# Altium footprint library Transistor.PcbLib: 227 footprints (part 5 of 15)
Each footprint in its own frame and in the unit in brackets; x right, y up, seen from the top. Pads: shape width x height; smd on the part's side, far side on the other; paste and mask are expansions set on the pad; w line width, h text height; cw(c..) or ccw(c..) is an arc to the next point about the centre after c.
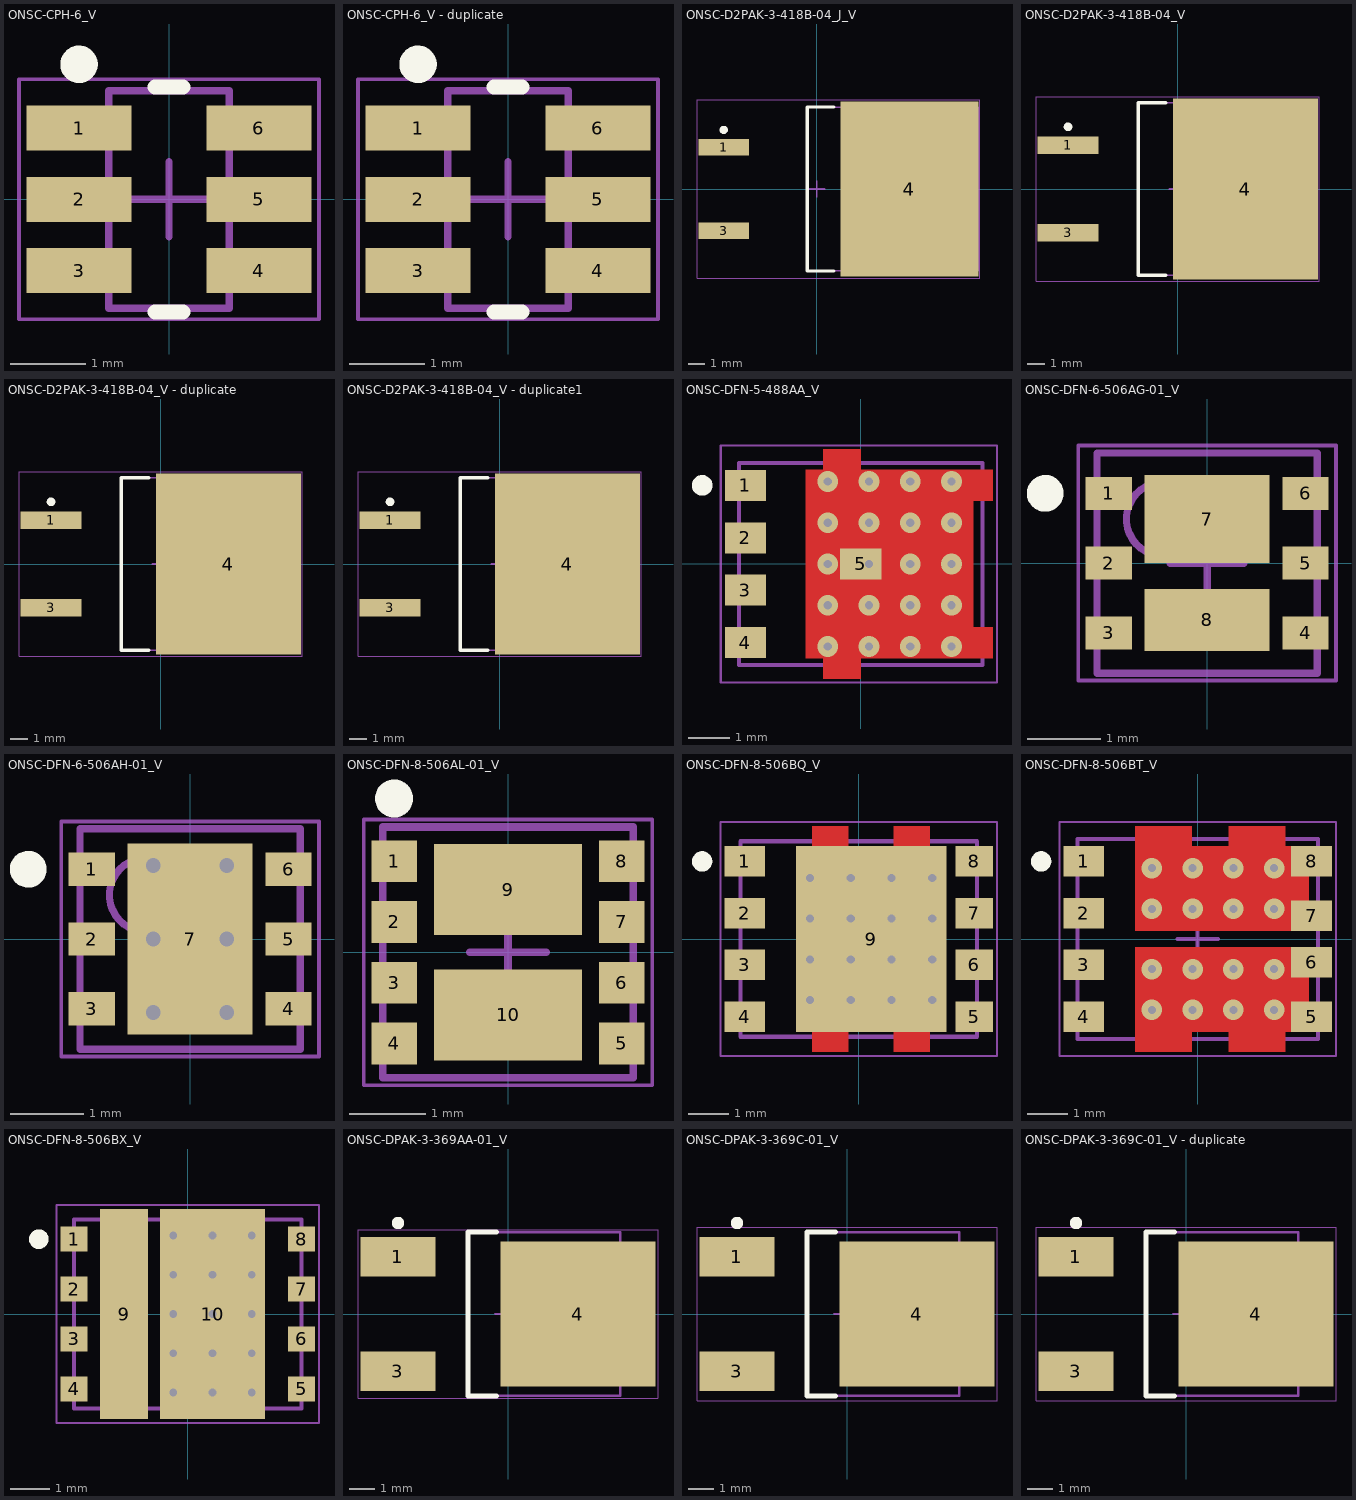
[diagram p4: the footprints below, top view; thin cyan lines are the x and y axes]

## ONSC-CPH-6_V [mm] "SOT23, 6-Leads, Body 2.9x1.6mm, Pitch 0.95mm"
height 1.02
pads (6):
  rect 1.4x0.6 smd: 1(-1.2,0.95) 2(-1.2,0) 3(-1.2,-0.95) 4(1.2,-0.95) 5(1.2,0) 6(1.2,0.95)
Top Overlay:
  circle w0.25: c-1.2,1.8 r0.125
  lines w0.2: -0.188,-1.5 0.188,-1.5 ; -0.188,1.5 0.188,1.5
Mechanical 13:
  lines w0.1: -0.8,-1.45 -0.8,1.45 0.8,1.45 0.8,-1.45 -0.8,-1.45
Mechanical 15:
  lines w0.05: -2,-1.6 -2,1.6 2,1.6 2,-1.6 -2,-1.6
  lines w0.1: -0.5,0 0.5,0 ; 0,-0.5 0,0.5
3D body: height 1.02, standoff 0, extent -0.8,-1.45 0.8,1.45

## ONSC-CPH-6_V - duplicate [mm] "SOT23, 6-Leads, Body 2.9x1.6mm, Pitch 0.95mm"
height 1.02
pads (6):
  rect 1.4x0.6 smd: 1(-1.2,0.95) 2(-1.2,0) 3(-1.2,-0.95) 4(1.2,-0.95) 5(1.2,0) 6(1.2,0.95)
Top Overlay:
  circle w0.25: c-1.2,1.8 r0.125
  lines w0.2: -0.188,-1.5 0.188,-1.5 ; -0.188,1.5 0.188,1.5
Mechanical 13:
  lines w0.1: -0.8,-1.45 -0.8,1.45 0.8,1.45 0.8,-1.45 -0.8,-1.45
Mechanical 15:
  lines w0.05: -2,-1.6 -2,1.6 2,1.6 2,-1.6 -2,-1.6
  lines w0.1: -0.5,0 0.5,0 ; 0,-0.5 0,0.5
3D body: height 1.02, standoff 0, extent -0.8,-1.45 0.8,1.45

## ONSC-D2PAK-3-418B-04_J_V [mm] "FM, 3-Leads, Body 9.97x9.145mm, Pitch 2.54mm"
height 4.83
pads (3):
  rect 3.05x1.016 smd: 1(-5.655,2.54) 3(-5.655,-2.54)
  rect 8.38x10.66 smd: 4(5.65,0)
Top Overlay:
  circle w0.25: c-5.65,3.598 r0.125
  lines w0.2: 1.06,-4.985 -0.575,-4.985 -0.575,4.985 1.06,4.985
Mechanical 13:
  lines w0.1: 8.57,-4.985 8.57,4.985 ; 8.57,-4.985 -0.575,-4.985 -0.575,4.985 8.57,4.985 ; 8.57,-4.985 9.84,-4.985 9.84,4.985 8.57,4.985
Mechanical 15:
  lines w0.05: -7.28,-5.43 9.94,-5.43 9.94,5.43 -7.28,5.43 -7.28,-5.43
  lines w0.1: -0.5,0 0.5,0 ; 0,-0.5 0,0.5
3D body: height 4.83, standoff 0, extent -0.575,-4.985 8.57,4.985
3D body: height 1.27, standoff 0, extent 8.57,-4.985 9.84,4.985

## ONSC-D2PAK-3-418B-04_V [mm] "DPAK, 3-Leads, Body 9.97x9.145mm, Pitch 2.54mm"
height 4.83
pads (3):
  rect 3.504x1.016 smd: 1(-6.35,2.54) 3(-6.35,-2.54)
  rect 8.38x10.49 smd: 4(3.9,0)
Top Overlay:
  circle w0.25: c-6.35,3.598 r0.125
  lines w0.2: -0.69,-4.985 -2.3,-4.985 -2.3,4.985 -0.69,4.985
Mechanical 13:
  lines w0.1: -2.3,-4.985 6.845,-4.985 6.845,4.985 -2.3,4.985 -2.3,-4.985
Mechanical 15:
  lines w0.05: -8.202,-5.345 8.19,-5.345 8.19,5.345 -8.202,5.345 -8.202,-5.345
  lines w0.1: -0.5,0 0.5,0 ; 0,-0.5 0,0.5
3D body: height 4.83, standoff 0, extent -2.3,-4.985 6.845,4.985

## ONSC-D2PAK-3-418B-04_V - duplicate [mm] "DPAK, 3-Leads, Body 9.97x9.145mm, Pitch 2.54mm"
height 4.83
pads (3):
  rect 3.504x1.016 smd: 1(-6.35,2.54) 3(-6.35,-2.54)
  rect 8.38x10.49 smd: 4(3.9,0)
Top Overlay:
  circle w0.25: c-6.35,3.598 r0.125
  lines w0.2: -0.69,-4.985 -2.3,-4.985 -2.3,4.985 -0.69,4.985
Mechanical 13:
  lines w0.1: -2.3,-4.985 -2.3,4.985 6.845,4.985 6.845,-4.985 -2.3,-4.985
Mechanical 15:
  lines w0.05: -8.202,-5.345 -8.202,5.345 8.19,5.345 8.19,-5.345 -8.202,-5.345
  lines w0.1: -0.5,0 0.5,0 ; 0,-0.5 0,0.5
3D body: height 4.83, standoff 0, extent -2.3,-4.985 6.845,4.985

## ONSC-D2PAK-3-418B-04_V - duplicate1 [mm] "DPAK, 3-Leads, Body 9.97x9.145mm, Pitch 2.54mm"
height 4.83
pads (3):
  rect 3.504x1.016 smd: 1(-6.35,2.54) 3(-6.35,-2.54)
  rect 8.38x10.49 smd: 4(3.9,0)
Top Overlay:
  circle w0.25: c-6.35,3.598 r0.125
  lines w0.2: -0.69,-4.985 -2.3,-4.985 -2.3,4.985 -0.69,4.985
Mechanical 13:
  lines w0.1: -2.3,-4.985 -2.3,4.985 6.845,4.985 6.845,-4.985 -2.3,-4.985
Mechanical 15:
  lines w0.05: -8.202,-5.345 -8.202,5.345 8.19,5.345 8.19,-5.345 -8.202,-5.345
  lines w0.1: -0.5,0 0.5,0 ; 0,-0.5 0,0.5
3D body: height 4.83, standoff 0, extent -2.3,-4.985 6.845,4.985

## ONSC-DFN-5-488AA_V [mm] "DFN, 5-Leads, Body 5.9x4.9mm, Pitch 1.27mm"
height 1.1
pads (5):
  rect 1x0.75 smd: 1(-2.795,1.905) 2(-2.795,0.635) 3(-2.795,-0.635) 4(-2.795,-1.905)
  rect 1x0.75 smd paste+0 mask+0: 5(0,0)
via 0.198,0 diameter 0.5 hole 0.2
via 0.198,2 diameter 0.5 hole 0.2
via 0.198,-1 diameter 0.5 hole 0.2
via 0.198,-2 diameter 0.5 hole 0.2
via 0.198,1 diameter 0.5 hole 0.2
via 1.198,0 diameter 0.5 hole 0.2
via 1.198,1 diameter 0.5 hole 0.2
via 1.198,2 diameter 0.5 hole 0.2
via 1.198,-2 diameter 0.5 hole 0.2
via 1.198,-1 diameter 0.5 hole 0.2
via -0.803,1 diameter 0.5 hole 0.2
via -0.803,-2 diameter 0.5 hole 0.2
via -0.803,-1 diameter 0.5 hole 0.2
via -0.803,2 diameter 0.5 hole 0.2
via -0.803,0 diameter 0.5 hole 0.2
via 2.198,-1 diameter 0.5 hole 0.2
via 2.198,-2 diameter 0.5 hole 0.2
via 2.198,2 diameter 0.5 hole 0.2
via 2.198,1 diameter 0.5 hole 0.2
via 2.198,0 diameter 0.5 hole 0.2
Top Layer:
  region: -0.905,-2.775 -0.905,-2.28 -1.33,-2.28 -1.33,2.28 -0.905,2.28 -0.905,2.775 0,2.775 0,2.28 3.2,2.28 3.2,1.53 2.725,1.53 2.725,-1.53 3.2,-1.53 3.2,-2.28 0,-2.28 0,-2.775
Top Overlay:
  circle w0.25: c-3.845,1.905 r0.125
Mechanical 13:
  lines w0.1: -2.95,-2.45 -2.95,2.45 2.95,2.45 2.95,-2.45 -2.95,-2.45
Mechanical 15:
  lines w0.05: -3.395,-2.875 3.3,-2.875 3.3,2.875 -3.395,2.875 -3.395,-2.875
  lines w0.1: -0.5,0 0.5,0 ; 0,-0.5 0,0.5
3D body: height 1.1, standoff 0, extent -2.95,-2.45 2.95,2.45

## ONSC-DFN-6-506AG-01_V [mm] "SON, 6-Leads, Body 3x3mm, Pitch 0.95mm"
height 1
pads (8):
  rect 0.63x0.45 smd: 1(-1.34,0.95) 2(-1.34,0) 3(-1.34,-0.95) 4(1.34,-0.95) 5(1.34,0) 6(1.34,0.95)
  rect 1.7x1.2 smd: 7(0,0.6)
  rect 1.7x0.85 smd: 8(0,-0.775)
Top Overlay:
  circle w0.25: c-2.205,0.95 r0.125
Mechanical 13:
  circle w0.1: c-0.6,0.6 r0.5
  lines w0.1: -1.5,-1.5 1.5,-1.5 1.5,1.5 -1.5,1.5 -1.5,-1.5
Mechanical 15:
  lines w0.05: -1.755,-1.6 1.755,-1.6 1.755,1.6 -1.755,1.6 -1.755,-1.6
  lines w0.1: -0.5,0 0.5,0 ; 0,-0.5 0,0.5
3D body: height 1, standoff 0, extent -1.5,-1.5 1.5,1.5

## ONSC-DFN-6-506AH-01_V [mm] "SON, 6-Leads, Body 3x3mm, Pitch 0.95mm, Thermal Pad 2.6x1.7mm"
height 1
pads (7):
  rect 0.63x0.45 smd: 1(-1.34,0.95) 2(-1.34,0) 3(-1.34,-0.95) 4(1.34,-0.95) 5(1.34,0) 6(1.34,0.95)
  rect 1.7x2.6 smd: 7(0,0)
via 0.5,-1 diameter 0.5 hole 0.2
via -0.5,-1 diameter 0.5 hole 0.2
via 0.5,0 diameter 0.5 hole 0.2
via -0.5,0 diameter 0.5 hole 0.2
via 0.5,1 diameter 0.5 hole 0.2
via -0.5,1 diameter 0.5 hole 0.2
Top Overlay:
  circle w0.25: c-2.205,0.95 r0.125
Mechanical 13:
  circle w0.1: c-0.6,0.6 r0.5
  lines w0.1: -1.5,-1.5 1.5,-1.5 1.5,1.5 -1.5,1.5 -1.5,-1.5
Mechanical 15:
  lines w0.05: -1.755,-1.6 1.755,-1.6 1.755,1.6 -1.755,1.6 -1.755,-1.6
  lines w0.1: -0.5,0 0.5,0 ; 0,-0.5 0,0.5
3D body: height 1, standoff 0, extent -1.5,-1.5 1.5,1.5

## ONSC-DFN-8-506AL-01_V [mm] "SON, 8-Leads, Body 3.3x3.3mm, Pitch 0.8mm"
height 1
pads (10):
  rect 0.6x0.55 smd: 1(-1.5,1.2) 2(-1.5,0.4) 3(-1.5,-0.4) 4(-1.5,-1.2) 5(1.5,-1.2) 6(1.5,-0.4) 7(1.5,0.4) 8(1.5,1.2)
  rect 1.95x1.2 smd: 9(0,0.825) 10(0,-0.825)
Top Overlay:
  circle w0.25: c-1.5,2.025 r0.125
Mechanical 13:
  lines w0.1: -1.65,-1.65 1.65,-1.65 1.65,1.65 -1.65,1.65 -1.65,-1.65
Mechanical 15:
  lines w0.05: -1.9,-1.75 1.9,-1.75 1.9,1.75 -1.9,1.75 -1.9,-1.75
  lines w0.1: -0.5,0 0.5,0 ; 0,-0.5 0,0.5
3D body: height 1, standoff 0, extent -1.65,-1.65 1.65,1.65

## ONSC-DFN-8-506BQ_V [mm] "SON, 8-Leads, Body 6.15x5.15mm, Pitch 1.27mm, Thermal Pad 4.56x3.7mm"
height 1.1
pads (9):
  rect 1x0.75 smd: 1(-2.795,1.905) 2(-2.795,0.635) 3(-2.795,-0.635) 4(-2.795,-1.905)
  rect 0.92x0.75 smd: 5(2.835,-1.905) 6(2.835,-0.635) 7(2.835,0.635) 8(2.835,1.905)
  rect 3.7x4.56 smd: 9(0.305,0)
via 1.805,-1.5 diameter 0.5 hole 0.2
via 1.805,0.5 diameter 0.5 hole 0.2
via 1.805,1.5 diameter 0.5 hole 0.2
via 0.805,-0.5 diameter 0.5 hole 0.2
via -1.195,1.5 diameter 0.5 hole 0.2
via -0.195,1.5 diameter 0.5 hole 0.2
via 0.805,-1.5 diameter 0.5 hole 0.2
via -0.195,-1.5 diameter 0.5 hole 0.2
via 1.805,-0.5 diameter 0.5 hole 0.2
via 0.805,0.5 diameter 0.5 hole 0.2
via -0.195,0.5 diameter 0.5 hole 0.2
via -0.195,-0.5 diameter 0.5 hole 0.2
via -1.195,-1.5 diameter 0.5 hole 0.2
via -1.195,-0.5 diameter 0.5 hole 0.2
via -1.195,0.5 diameter 0.5 hole 0.2
via 0.805,1.5 diameter 0.5 hole 0.2
Top Layer:
  rectangle: 0.855,-2.775 1.755,2.775
  rectangle: -1.145,-2.775 -0.245,2.775
Top Overlay:
  circle w0.25: c-3.845,1.905 r0.125
Mechanical 13:
  lines w0.1: -2.9,-2.4 -2.9,2.4 2.9,2.4 2.9,-2.4 -2.9,-2.4
Mechanical 15:
  lines w0.05: -3.395,-2.875 -3.395,2.875 3.395,2.875 3.395,-2.875 -3.395,-2.875
  lines w0.1: -0.5,0 0.5,0 ; 0,-0.5 0,0.5
3D body: height 1.1, standoff 0, extent -2.9,-2.4 2.9,2.4

## ONSC-DFN-8-506BT_V [mm] "DFN, 8-Leads, Body 5.9x4.9mm, Pitch 1.27mm"
height 1.1
pads (8):
  rect 1x0.75 smd: 1(-2.795,1.905) 2(-2.795,0.635) 3(-2.795,-0.635) 4(-2.795,-1.905) 5(2.795,-1.905) 6(2.795,-0.575) 7(2.795,0.575) 8(2.795,1.905)
via 1.875,1.74 diameter 0.5 hole 0.2
via 1.875,0.74 diameter 0.5 hole 0.2
via 1.875,-0.74 diameter 0.5 hole 0.2
via 1.875,-1.74 diameter 0.5 hole 0.2
via -0.125,-1.74 diameter 0.5 hole 0.2
via -0.125,-0.74 diameter 0.5 hole 0.2
via -1.125,-0.74 diameter 0.5 hole 0.2
via -1.125,-1.74 diameter 0.5 hole 0.2
via 0.875,-0.74 diameter 0.5 hole 0.2
via 0.875,-1.74 diameter 0.5 hole 0.2
via 0.875,1.74 diameter 0.5 hole 0.2
via 0.875,0.74 diameter 0.5 hole 0.2
via -1.125,1.74 diameter 0.5 hole 0.2
via -1.125,0.74 diameter 0.5 hole 0.2
via -0.125,0.74 diameter 0.5 hole 0.2
via -0.125,1.74 diameter 0.5 hole 0.2
Top Layer:
  region: 2.735,0.2 2.735,2.28 -1.545,2.28 -1.545,0.2
  region: 2.155,0.2 2.155,2.775 0.755,2.775 0.755,0.2
  region: -0.145,0.2 -0.145,2.775 -1.545,2.775 -1.545,0.2
  region: -1.545,-0.2 -1.545,-2.775 -0.145,-2.775 -0.145,-0.2
  region: 0.755,-0.2 0.755,-2.775 2.155,-2.775 2.155,-0.2
  region: -1.545,-0.2 -1.545,-2.28 2.735,-2.28 2.735,-0.2
Top Overlay:
  circle w0.25: c-3.845,1.905 r0.125
Mechanical 13:
  lines w0.1: -2.95,-2.45 -2.95,2.45 2.95,2.45 2.95,-2.45 -2.95,-2.45
Mechanical 15:
  lines w0.05: -3.395,-2.875 -3.395,2.875 3.395,2.875 3.395,-2.875 -3.395,-2.875
  lines w0.1: -0.5,0 0.5,0 ; 0,-0.5 0,0.5
3D body: height 1.1, standoff 0, extent -2.95,-2.45 2.95,2.45

## ONSC-DFN-8-506BX_V [mm] "SON, 8-Leads, Body 5.8x4.8mm, Pitch 1.27mm"
height 1.1
pads (10):
  rect 0.69x0.64 smd: 1(-2.895,1.905) 2(-2.895,0.635) 3(-2.895,-0.635) 4(-2.895,-1.905) 5(2.895,-1.905) 6(2.895,-0.635) 7(2.895,0.635) 8(2.895,1.905)
  rect 1.22x5.35 smd: 9(-1.62,0)
  rect 2.68x5.35 smd: 10(0.63,0)
via -0.37,0 diameter 0.5 hole 0.2
via -0.37,2 diameter 0.5 hole 0.2
via -0.37,-1 diameter 0.5 hole 0.2
via -0.37,-2 diameter 0.5 hole 0.2
via -0.37,1 diameter 0.5 hole 0.2
via 1.63,-1 diameter 0.5 hole 0.2
via 1.63,-2 diameter 0.5 hole 0.2
via 1.63,2 diameter 0.5 hole 0.2
via 1.63,1 diameter 0.5 hole 0.2
via 1.63,0 diameter 0.5 hole 0.2
via 0.63,1 diameter 0.5 hole 0.2
via 0.63,-2 diameter 0.5 hole 0.2
via 0.63,-1 diameter 0.5 hole 0.2
via 0.63,2 diameter 0.5 hole 0.2
via 0.63,0 diameter 0.5 hole 0.2
Top Overlay:
  circle w0.25: c-3.79,1.905 r0.125
Mechanical 13:
  lines w0.1: -2.9,-2.4 2.9,-2.4 2.9,2.4 -2.9,2.4 -2.9,-2.4
Mechanical 15:
  lines w0.05: -3.34,-2.775 3.34,-2.775 3.34,2.775 -3.34,2.775 -3.34,-2.775
  lines w0.1: -0.5,0 0.5,0 ; 0,-0.5 0,0.5
3D body: height 1.1, standoff 0, extent -2.9,-2.4 2.9,2.4

## ONSC-DPAK-3-369AA-01_V [mm] "DPAK, 3-Leads, Body 6.54x6.095mm, Pitch 2.29mm"
height 2.47
pads (3):
  rect 3x1.6 smd: 1(-4.4,2.29) 3(-4.4,-2.29)
  rect 6.2x5.8 smd: 4(2.8,0)
Top Overlay:
  circle w0.25: c-4.4,3.64 r0.125
  lines w0.2: -0.453,-3.27 -1.6,-3.27 -1.6,3.27 -0.453,3.27
Mechanical 13:
  lines w0.1: -1.6,-3.27 4.495,-3.27 4.495,3.27 -1.6,3.27 -1.6,-3.27
Mechanical 15:
  lines w0.05: 5.99,-3.37 -6,-3.37 -6,3.37 5.99,3.37 ; 6,-3.37 6,3.37
  lines w0.1: -0.5,0 0.5,0 ; 0,-0.5 0,0.5
3D body: height 2.47, standoff 0, extent -1.6,-3.27 4.495,3.27

## ONSC-DPAK-3-369C-01_V [mm] "DPAK, 3-Leads, Body 6.54x6.095mm, Pitch 2.29mm"
height 2.38
pads (3):
  rect 3x1.6 smd: 1(-4.4,2.29) 3(-4.4,-2.29)
  rect 6.2x5.8 smd: 4(2.8,0)
Top Overlay:
  circle w0.25: c-4.4,3.64 r0.125
  lines w0.2: -0.453,-3.27 -1.6,-3.27 -1.6,3.27 -0.453,3.27
Mechanical 13:
  lines w0.1: -1.6,-3.27 4.495,-3.27 4.495,3.27 -1.6,3.27 -1.6,-3.27
Mechanical 15:
  lines w0.05: -6,-3.465 6,-3.465 6,3.465 -6,3.465 -6,-3.465
  lines w0.1: -0.5,0 0.5,0 ; 0,-0.5 0,0.5
3D body: height 2.38, standoff 0, extent -1.6,-3.27 4.495,3.27

## ONSC-DPAK-3-369C-01_V - duplicate [mm] "DPAK, 3-Leads, Body 6.54x6.095mm, Pitch 2.29mm"
height 2.38
pads (3):
  rect 3x1.6 smd: 1(-4.4,2.29) 3(-4.4,-2.29)
  rect 6.2x5.8 smd: 4(2.8,0)
Top Overlay:
  circle w0.25: c-4.4,3.64 r0.125
  lines w0.2: -0.453,-3.27 -1.6,-3.27 -1.6,3.27 -0.453,3.27
Mechanical 13:
  lines w0.1: -1.6,-3.27 -1.6,3.27 4.495,3.27 4.495,-3.27 -1.6,-3.27
Mechanical 15:
  lines w0.05: -6,-3.465 -6,3.465 6,3.465 6,-3.465 -6,-3.465
  lines w0.1: -0.5,0 0.5,0 ; 0,-0.5 0,0.5
3D body: height 2.38, standoff 0, extent -1.6,-3.27 4.495,3.27